# EAGLE library part PIC32MX250F128B (library hw2)
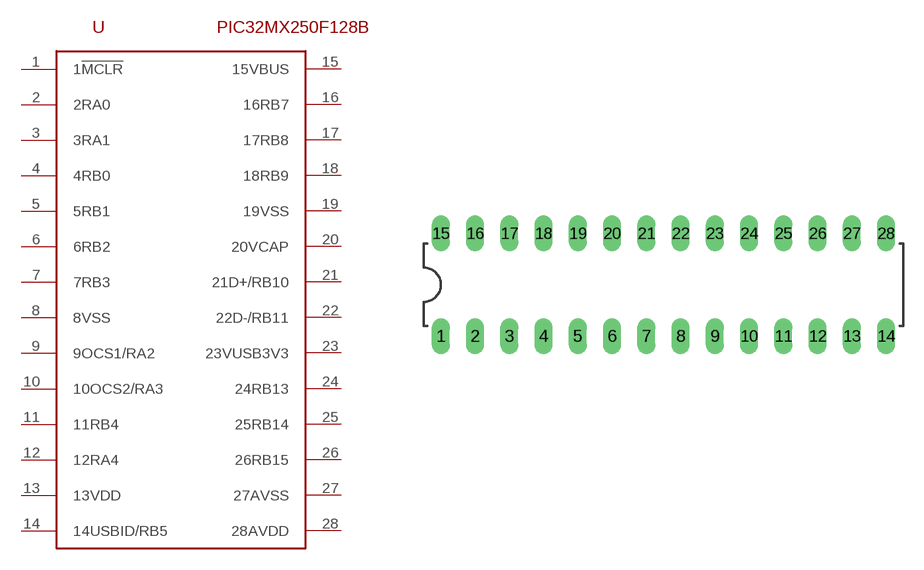
[diagram p0: symbol with the pads of DIL28-3; footprint DIL28-3]

Designator prefix -

## PIC32MX250F128B  [DIL28-3]
1  1!MCLR
2  2RA0
3  3RA1
4  4RB0
5  5RB1
6  6RB2
7  7RB3
8  8VSS
9  9OCS1/RA2
10  10OCS2/RA3
11  11RB4
12  12RA4
13  13VDD
14  14USBID/RB5
15  15VBUS
16  16RB7
17  17RB8
18  18RB9
19  19VSS
20  20VCAP
21  21D+/RB10
22  22D-/RB11
23  23VUSB3V3
24  24RB13
25  25RB14
26  26RB15
27  27AVSS
28  28AVDD

## Footprint DIL28-3 (pad centres in mm)
Standard 28-pin DIP package. IC needs to have legs bent before insertion.
drill 0.813 long: 1 -16.51,-3.81; 2 -13.97,-3.81; 3 -11.43,-3.81; 4 -8.89,-3.81; 5 -6.35,-3.81; 6 -3.81,-3.81; 7 -1.27,-3.81; 8 1.27,-3.81; 9 3.81,-3.81; 10 6.35,-3.81; 11 8.89,-3.81; 12 11.43,-3.81; 13 13.97,-3.81; 14 16.51,-3.81; 15 -16.51,3.81; 16 -13.97,3.81; 17 -11.43,3.81; 18 -8.89,3.81; 19 -6.35,3.81; 20 -3.81,3.81; 21 -1.27,3.81; 22 1.27,3.81; 23 3.81,3.81; 24 6.35,3.81; 25 8.89,3.81; 26 11.43,3.81; 27 13.97,3.81; 28 16.51,3.81